# EAGLE library part XC9258 (library Particle)
1.0A Synchronous Step-Down DC/DC Converters
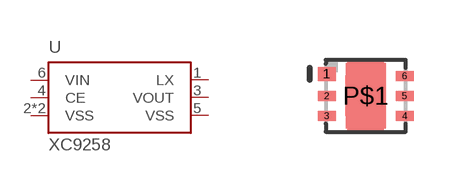
[diagram p36: symbol with the pads of USP-6C; footprint USP-6C]

Designator prefix U

## XC9258A33EER-G  [USP-6C]
1  LX
2  VSS  pwr
3  VOUT  pwr
4  CE
5  VSS  pwr
6  VIN  pwr
P$1  VSS  pwr

## Footprint USP-6C (pad centres in mm)
USP-6C Footprint
smd 0.45 x 0.35: 1 -0.975,0.55
smd 0.45 x 0.25: 2 -0.975,0; 3 -0.975,-0.5; 4 0.975,-0.5; 5 0.975,0; 6 0.975,0.5
smd 1.016 x 1.016: P$1 0,0